# EAGLE library part 61202420621 (library Wuerth_Elektronik_eiCan_Wire_to_Board_Connectors)
WR-BHD 2.54mm Male SMT Box Header High Temperature, 24 Pins=>Code : Con_WTB_BHD_2.54_Male_SMT_61202420621 <http://katalog.we-online.de/media/thumbs2/eican/thb_Con_WTB_BHD_2.54_Male_SMT_6120xx20621_pf2.jpg> Details see: http://katalog.we-online.de/en/em/612_0xx_206_21 Created 2014-06-05, Karrer Zheng 2014 (C) Würth Elektronik
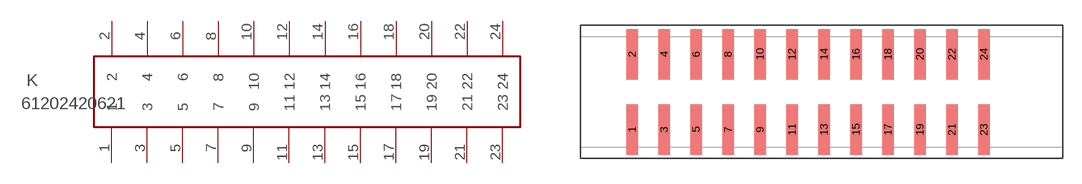
[diagram p157: symbol with the pads of 61202420621; footprint 61202420621]

Designator prefix K

## 61202420621  [61202420621]
1  1  pas
2  2  pas
3  3  pas
4  4  pas
5  5  pas
6  6  pas
7  7  pas
8  8  pas
9  9  pas
10  10  pas
11  11  pas
12  12  pas
13  13  pas
14  14  pas
15  15  pas
16  16  pas
17  17  pas
18  18  pas
19  19  pas
20  20  pas
21  21  pas
22  22  pas
23  23  pas
24  24  pas

## Footprint 61202420621 (pad centres in mm)
WR-BHD 2.54mm Male SMT Box Header High Temperature, 24 pins
smd 0.9 x 4: 1 -11.43,-3; 2 -11.43,3; 3 -8.89,-3; 4 -8.89,3; 5 -6.35,-3; 6 -6.35,3; 7 -3.81,-3; 8 -3.81,3; 9 -1.27,-3; 10 -1.27,3; 11 1.27,-3; 12 1.27,3; 13 3.81,-3; 14 3.81,3; 15 6.35,-3; 16 6.35,3; 17 8.89,-3; 18 8.89,3; 19 11.43,-3; 20 11.43,3; 21 13.97,-3; 22 13.97,3; 23 16.51,-3; 24 16.51,3